# Altium schematic symbol library 74LVC1G3157.SchLib: 1 symbol
Pins are listed as number, name and electrical type; pins without a type are passive.

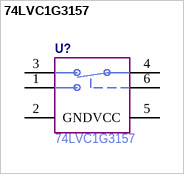
[diagram p0: symbol 74LVC1G3157]

## 74LVC1G3157
designator U?  Manufacturer Part Number: 74LVC1G3157  (hidden comment: *)
pins: 1 Y1, 2 GND, 3 Y0, 4 Z, 5 VCC, 6 S